# EAGLE library part ES_GATE (library Electrosmith-Boards)
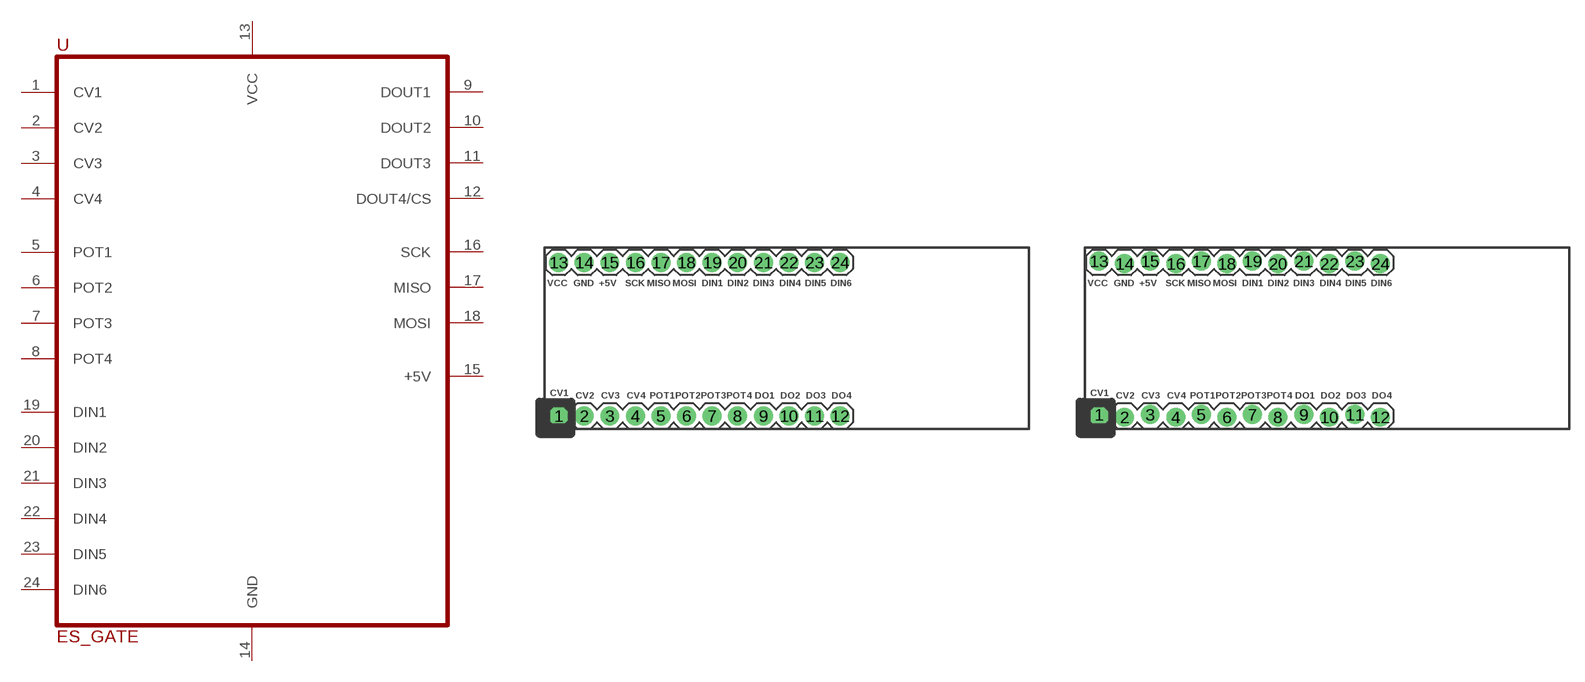
[diagram p6: symbol with the pads of ES_GATE; footprints ES_GATE, ES_GATE_LOCK]

Designator prefix U

## ES_GATE  [ES_GATE]
1  CV1
2  CV2
3  CV3
4  CV4
5  POT1
6  POT2
7  POT3
8  POT4
9  DOUT1
10  DOUT2
11  DOUT3
12  DOUT4/CS
13  VCC
14  GND
15  +5V
16  SCK
17  MISO
18  MOSI
19  DIN1
20  DIN2
21  DIN3
22  DIN4
23  DIN5
24  DIN6

## ES_GATE_LOCK  [ES_GATE_LOCK]
Pads as for ES_GATE

## Footprint ES_GATE (pad centres in mm)
drill 1.016 pad 1.88 square: 1 1.395,1.268
drill 1.016 pad 1.88: 2 3.935,1.268; 3 6.475,1.268; 4 9.015,1.268; 5 11.555,1.268; 6 14.095,1.268; 7 16.635,1.268; 8 19.175,1.268; 9 21.715,1.268; 10 24.255,1.268; 11 26.795,1.268; 12 29.335,1.268; 13 1.395,16.508; 14 3.935,16.508; 15 6.475,16.508; 16 9.015,16.508; 17 11.555,16.508; 18 14.095,16.508; 19 16.635,16.508; 20 19.175,16.508; 21 21.715,16.508; 22 24.255,16.508; 23 26.795,16.508; 24 29.335,16.508

## Footprint ES_GATE_LOCK (pad centres in mm)
drill 1.016 pad 1.88 square: 1 1.395,1.395
drill 1.016 pad 1.88: 2 3.935,1.141; 3 6.475,1.395; 4 9.015,1.141; 5 11.555,1.395; 6 14.095,1.141; 7 16.635,1.395; 8 19.175,1.141; 9 21.715,1.395; 10 24.255,1.141; 11 26.795,1.395; 12 29.335,1.141; 13 1.395,16.635; 14 3.935,16.381; 15 6.475,16.635; 16 9.015,16.381; 17 11.555,16.635; 18 14.095,16.381; 19 16.635,16.635; 20 19.175,16.381; 21 21.715,16.635; 22 24.255,16.381; 23 26.795,16.635; 24 29.335,16.381